# EAGLE library part AUDIOAMP_TPA2012D2 (library microbuilder)
TPA2012D2 2.1W/CH Stereo Class-D Audio Amp 2.1W/Ch into 4 Ohm at 5V 1.4W/Ch into 8 Ohm at 5V 720mW/Ch into 8 ohm at 3.6V Selectable Gain: 6, 12, 18 or 24 dB Power Supply (PVDD and AVDD): 2.5-5.5V Operating Temperature: -40 to 85°C Digikey (QFN20): 296-17692-1-ND
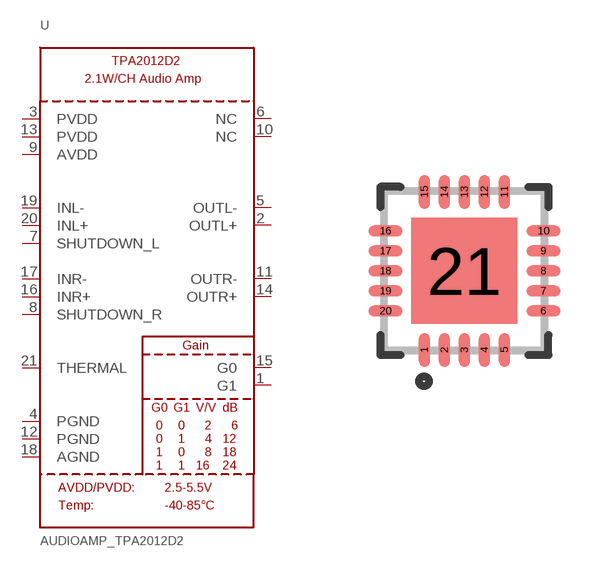
[diagram p194: symbol with the pads of WQFN20; footprint WQFN20]

Designator prefix U

## AUDIOAMP_TPA2012D2  [WQFN20]
1  G1  in
2  OUTL+  out
3  PVDD  pwr
4  PGND  pwr
5  OUTL-  out
6  NC  nc
7  SHUTDOWN_L  in
8  SHUTDOWN_R  in
9  AVDD  pwr
10  NC  nc
11  OUTR-  out
12  PGND  pwr
13  PVDD  pwr
14  OUTR+  out
15  G0  in
16  INR+  in
17  INR-  in
18  AGND  pwr
19  INL-  in
20  INL+  in
21  THERMAL

## Footprint WQFN20 (pad centres in mm)
20-PWQFN 4.0x4.0mm 0.5mm pitch Source: http://www.ti.com/lit/ds/symlink/tpa2012d2.pdf
smd 0.28 x 0.85: 1 -1,-1.975; 2 -0.5,-1.975; 3 0,-1.975; 4 0.5,-1.975; 5 1,-1.975; 11 1,1.975; 12 0.5,1.975; 13 0,1.975; 14 -0.5,1.975; 15 -1,1.975
smd 0.85 x 0.28: 6 1.975,-1; 7 1.975,-0.5; 8 1.975,0; 9 1.975,0.5; 10 1.975,1; 16 -1.975,1; 17 -1.975,0.5; 18 -1.975,0; 19 -1.975,-0.5; 20 -1.975,-1
smd 2.65 x 2.65: 21 0,0